# Altium footprint library aiskylab-10Sensors-x.PcbLib: 2 footprints
Each footprint in its own frame and in the unit in brackets; x right, y up, seen from the top. Pads: shape width x height; smd on the part's side, far side on the other; paste and mask are expansions set on the pad; w line width, h text height; cw(c..) or ccw(c..) is an arc to the next point about the centre after c.
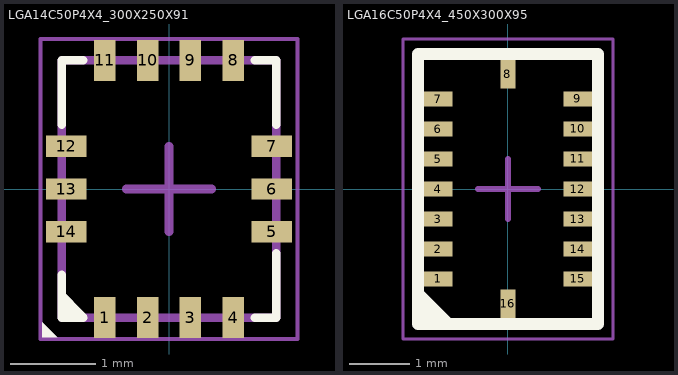
[diagram p0: the footprints below, top view; thin cyan lines are the x and y axes]

## LGA14C50P4X4_300X250X91 [mm] "LGA, 14-Leads, Body 3.00x2.50mmx0.91mm, Pitch 0.50mm"
height 0.91
pads (14):
  rect 0.25x0.475 smd: 1(-0.75,-1.5) 2(-0.25,-1.5) 3(0.25,-1.5) 4(0.75,-1.5) 8(0.75,1.5) 9(0.25,1.5) 10(-0.25,1.5) 11(-0.75,1.5)
  rect 0.475x0.25 smd: 5(1.2,-0.5) 6(1.2,0) 7(1.2,0.5) 12(-1.2,0.5) 13(-1.2,0) 14(-1.2,-0.5)
Top Overlay:
  region: -1.277,-1.471 -0.96,-1.471 -1.277,-1.154
  region: -1.478,-1.731 -1.303,-1.731 -1.478,-1.556
  lines w0.1: -1.25,-1 -1.25,-1.5 -1,-1.5 ; -1.25,0.75 -1.25,1.5 -1,1.5 ; 1,-1.5 1.25,-1.5 1.25,-0.75 ; 1,1.5 1.25,1.5 1.25,0.75
Top Assembly:
  lines w0.1: -1.25,-1.5 1.25,-1.5 1.25,1.5 -1.25,1.5 -1.25,-1.5
Top Component Center:
  lines w0.1: -0.5,0 0.5,0 ; 0,-0.5 0,0.5
Top Component Outline:
  lines w0.05: -1.5,-1.75 1.5,-1.75 1.5,1.75 -1.5,1.75 -1.5,-1.75
3D body "LGA14C50P4X4_300X250X91.step": height 0.91, standoff 0, extent -1.25,-1.5 1.25,1.5

## LGA16C50P4X4_450X300X95 [mm] "LGA, 16-Leads, Body 4.50x3.00mmx0.95mm, Pitch 0.50mm"
height 0.95
pads (16):
  rect 0.475x0.25 smd: 1(-1.16,-1.5) 2(-1.16,-1) 3(-1.16,-0.5) 4(-1.16,0) 5(-1.16,0.5) 6(-1.16,1) 7(-1.16,1.5) 9(1.16,1.5) 10(1.16,1) 11(1.16,0.5) 12(1.16,0) 13(1.16,-0.5) 14(1.16,-1) 15(1.16,-1.5)
  rect 0.25x0.475 smd: 8(0,1.915) 16(0,-1.915)
Top Overlay:
  region: -1.5,-1.75 -1,-2.25 -1.5,-2.25
  lines w0.2: -1.5,-1.75 -1,-2.25 ; -1.5,-2.25 1.5,-2.25 1.5,2.25 -1.5,2.25 -1.5,-2.25
Top Assembly:
  lines w0.1: -1.5,-2.25 1.5,-2.25 1.5,2.25 -1.5,2.25 -1.5,-2.25
Top Component Center:
  lines w0.1: -0.5,0 0.5,0 ; 0,-0.5 0,0.5
Top Component Outline:
  lines w0.05: -1.75,-2.5 1.75,-2.5 1.75,2.5 -1.75,2.5 -1.75,-2.5
3D body "LGA16C50P4X4_450X300X95.step": height 0.95, standoff 0, extent -1.5,-2.25 1.5,2.25